# Altium schematic symbol library Kasil_DIOT_x86_board.SCHLIB: 5 symbols
Pins are listed as number, name and electrical type; pins without a type are passive.

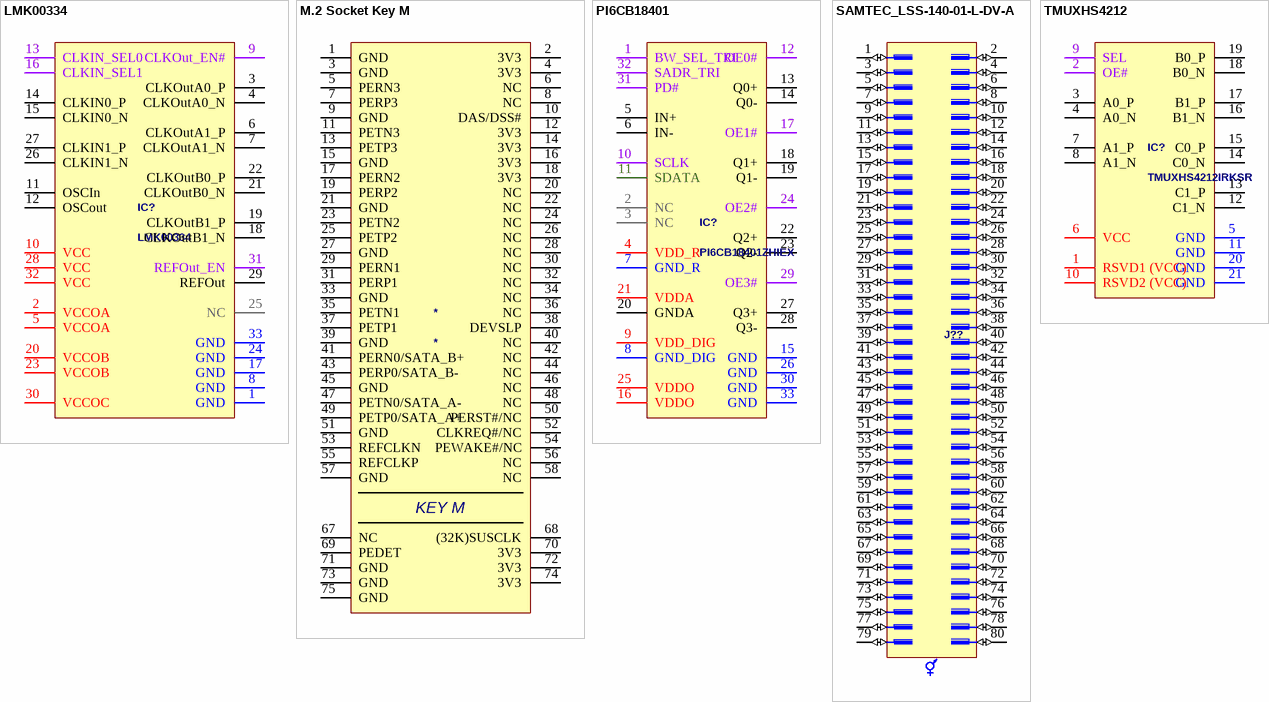
[diagram p0: symbols LMK00334 to TMUXHS4212]

## LMK00334
designator IC?
Four-Output Clock Buffer and Level Translator for PCIe Gen 1 to Gen 5
pins: 1 GND, 2 VCCOA, 3 CLKOutA0_P, 4 CLKOutA0_N, 5 VCCOA, 6 CLKOutA1_P, 7 CLKOutA1_N, 8 GND, 9 CLKOut_EN#, 10 VCC, 11 OSCIn, 12 OSCout, 13 CLKIN_SEL0, 14 CLKIN0_P, 15 CLKIN0_N, 16 CLKIN_SEL1, 17 GND, 18 CLKOutB1_N, 19 CLKOutB1_P, 20 VCCOB, 21 CLKOutB0_N, 22 CLKOutB0_P, 23 VCCOB, 24 GND, 25 NC, 26 CLKIN1_N, 27 CLKIN1_P, 28 VCC, 29 REFOut, 30 VCCOC, 31 REFOut_EN, 32 VCC, 33 GND

## M.2 Socket Key M
designator *
pins: 1 GND, 2 3V3, 3 GND, 4 3V3, 5 PERN3, 6 NC, 7 PERP3, 8 NC, 9 GND, 10 DAS/DSS#, 11 PETN3, 12 3V3, 13 PETP3, 14 3V3, 15 GND, 16 3V3, 17 PERN2, 18 3V3, 19 PERP2, 20 NC, 21 GND, 22 NC, 23 PETN2, 24 NC, 25 PETP2, 26 NC, 27 GND, 28 NC, 29 PERN1, 30 NC, 31 PERP1, 32 NC, 33 GND, 34 NC, 35 PETN1, 36 NC, 37 PETP1, 38 DEVSLP, 39 GND, 40 NC, 41 PERN0/SATA_B+, 42 NC, 43 PERP0/SATA_B-, 44 NC, 45 GND, 46 NC, 47 PETN0/SATA_A-, 48 NC, 49 PETP0/SATA_A+, 50 PERST#/NC, 51 GND, 52 CLKREQ#/NC, 53 REFCLKN, 54 PEWAKE#/NC, 55 REFCLKP, 56 NC, 57 GND, 58 NC, 67 NC, 68 (32K)SUSCLK, 69 PEDET, 70 3V3, 71 GND, 72 3V3, 73 GND, 74 3V3, 75 GND
text: KEY M

## PI6CB18401
designator IC?, comment PI6CB18401ZHIEX
Very Low Power 4-Output PCIe Clock Buffer With On-chip Termination
pins: 1 BW_SEL_TRI, 2 NC, 3 NC, 4 VDD_R, 5 IN+, 6 IN-, 7 GND_R, 8 GND_DIG, 9 VDD_DIG, 10 SCLK, 11 SDATA, 12 OE0#, 13 Q0+, 14 Q0-, 15 GND, 16 VDDO, 17 OE1#, 18 Q1+, 19 Q1-, 20 GNDA, 21 VDDA, 22 Q2+, 23 Q2-, 24 OE2#, 25 VDDO, 26 GND, 27 Q3+, 28 Q3-, 29 OE3#, 30 GND, 31 PD#, 32 SADR_TRI, 33 GND

## SAMTEC_LSS-140-01-L-DV-A
designator J??
Connector 80 Hermaphroditic; Part Number: SAMTEC_LSS-140-01-L-DV-A; Part Description: 80 Contacts, Pitch 0.635mm, Razor Beam LSS Vertical High Speed Hermaphroditic Strip (Lead Style 4.5mm); Manufacturer: SAMTEC; Manufacturer Part Number: LSS-140-01-L-DV-A; PressFit: No; Component Kind: Standard; Component Type: Standard; Footprint: SAMTEC_LSS-140-01-L-DV-A; Pin Count: 80; Mounted: Yes; Socket: No; SMD: Yes; Sense: No; Status: None; ComponentHeight: 4.57mm; HelpURL: \\cern.ch\dfs\Applications\Altium\Datasheets\SAMTEC_LSS-140-01-L-DV-A.pdf; Author: CERN DEM JMW; CreateDate: 10.11.2015; LatestRevisionDate: 10.11.2015
footprint SAMTEC_LSS-140-01-L-DV-A
pins: 1 (io), 2 (io), 3 (io), 4 (io), 5 (io), 6 (io), 7 (io), 8 (io), 9 (io), 10 (io), 11 (io), 12 (io), 13 (io), 14 (io), 15 (io), 16 (io), 17 (io), 18 (io), 19 (io), 20 (io), 21 (io), 22 (io), 23 (io), 24 (io), 25 (io), 26 (io), 27 (io), 28 (io), 29 (io), 30 (io), 31 (io), 32 (io), 33 (io), 34 (io), 35 (io), 36 (io), 37 (io), 38 (io), 39 (io), 40 (io), 41 (io), 42 (io), 43 (io), 44 (io), 45 (io), 46 (io), 47 (io), 48 (io), 49 (io), 50 (io), 51 (io), 52 (io), 53 (io), 54 (io), 55 (io), 56 (io), 57 (io), 58 (io), 59 (io), 60 (io), 61 (io), 62 (io), 63 (io), 64 (io), 65 (io), 66 (io), 67 (io), 68 (io), 69 (io), 70 (io), 71 (io), 72 (io), 73 (io), 74 (io), 75 (io), 76 (io), 77 (io), 78 (io), 79 (io), 80 (io)
1 alternate drawing of the same symbol

## TMUXHS4212
designator IC?, comment TMUXHS4212IRKSR
Two-Channel Differential 2:1 MUX or 1:2 Demux
pins: 1 RSVD1 (VCC), 2 OE#, 3 A0_P, 4 A0_N, 5 GND, 6 VCC, 7 A1_P, 8 A1_N, 9 SEL, 10 RSVD2 (VCC), 11 GND, 12 C1_N, 13 C1_P, 14 C0_N, 15 C0_P, 16 B1_N, 17 B1_P, 18 B0_N, 19 B0_P, 20 GND, 21 GND